# EAGLE library part PWR_LOADSW_USB_STMPS2252MTR (library !GPLIB_ACTIVE)
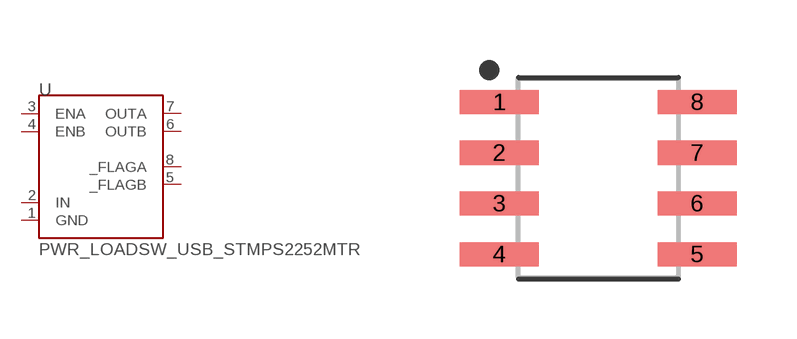
[diagram p81: symbol with the pads of STMPS2252MTR; footprint STMPS2252MTR]

Designator prefix -

## PWR_LOADSW_USB_STMPS2252MTR  [STMPS2252MTR]
1  GND
2  IN
3  ENA
4  ENB
5  _FLAGB
6  OUTB
7  OUTA
8  _FLAGA

## Footprint STMPS2252MTR (pad centres in mm)
8-SOIC, 1.27 mm pitch, 6.00 mm span, 4.90 X 3.90 X 1.75 mm body 8-pin SOIC package with 1.27 mm pitch, 6.00 mm span with body size 4.90 X 3.90 X 1.75 mm
smd 1.969 x 0.605: 1 -2.474,1.905; 2 -2.474,0.635; 3 -2.474,-0.635; 4 -2.474,-1.905; 5 2.474,-1.905; 6 2.474,-0.635; 7 2.474,0.635; 8 2.474,1.905